# Altium integrated library TI_Logic_Specialty_Logic.IntLib: 2504 symbols (part 55 of 81)
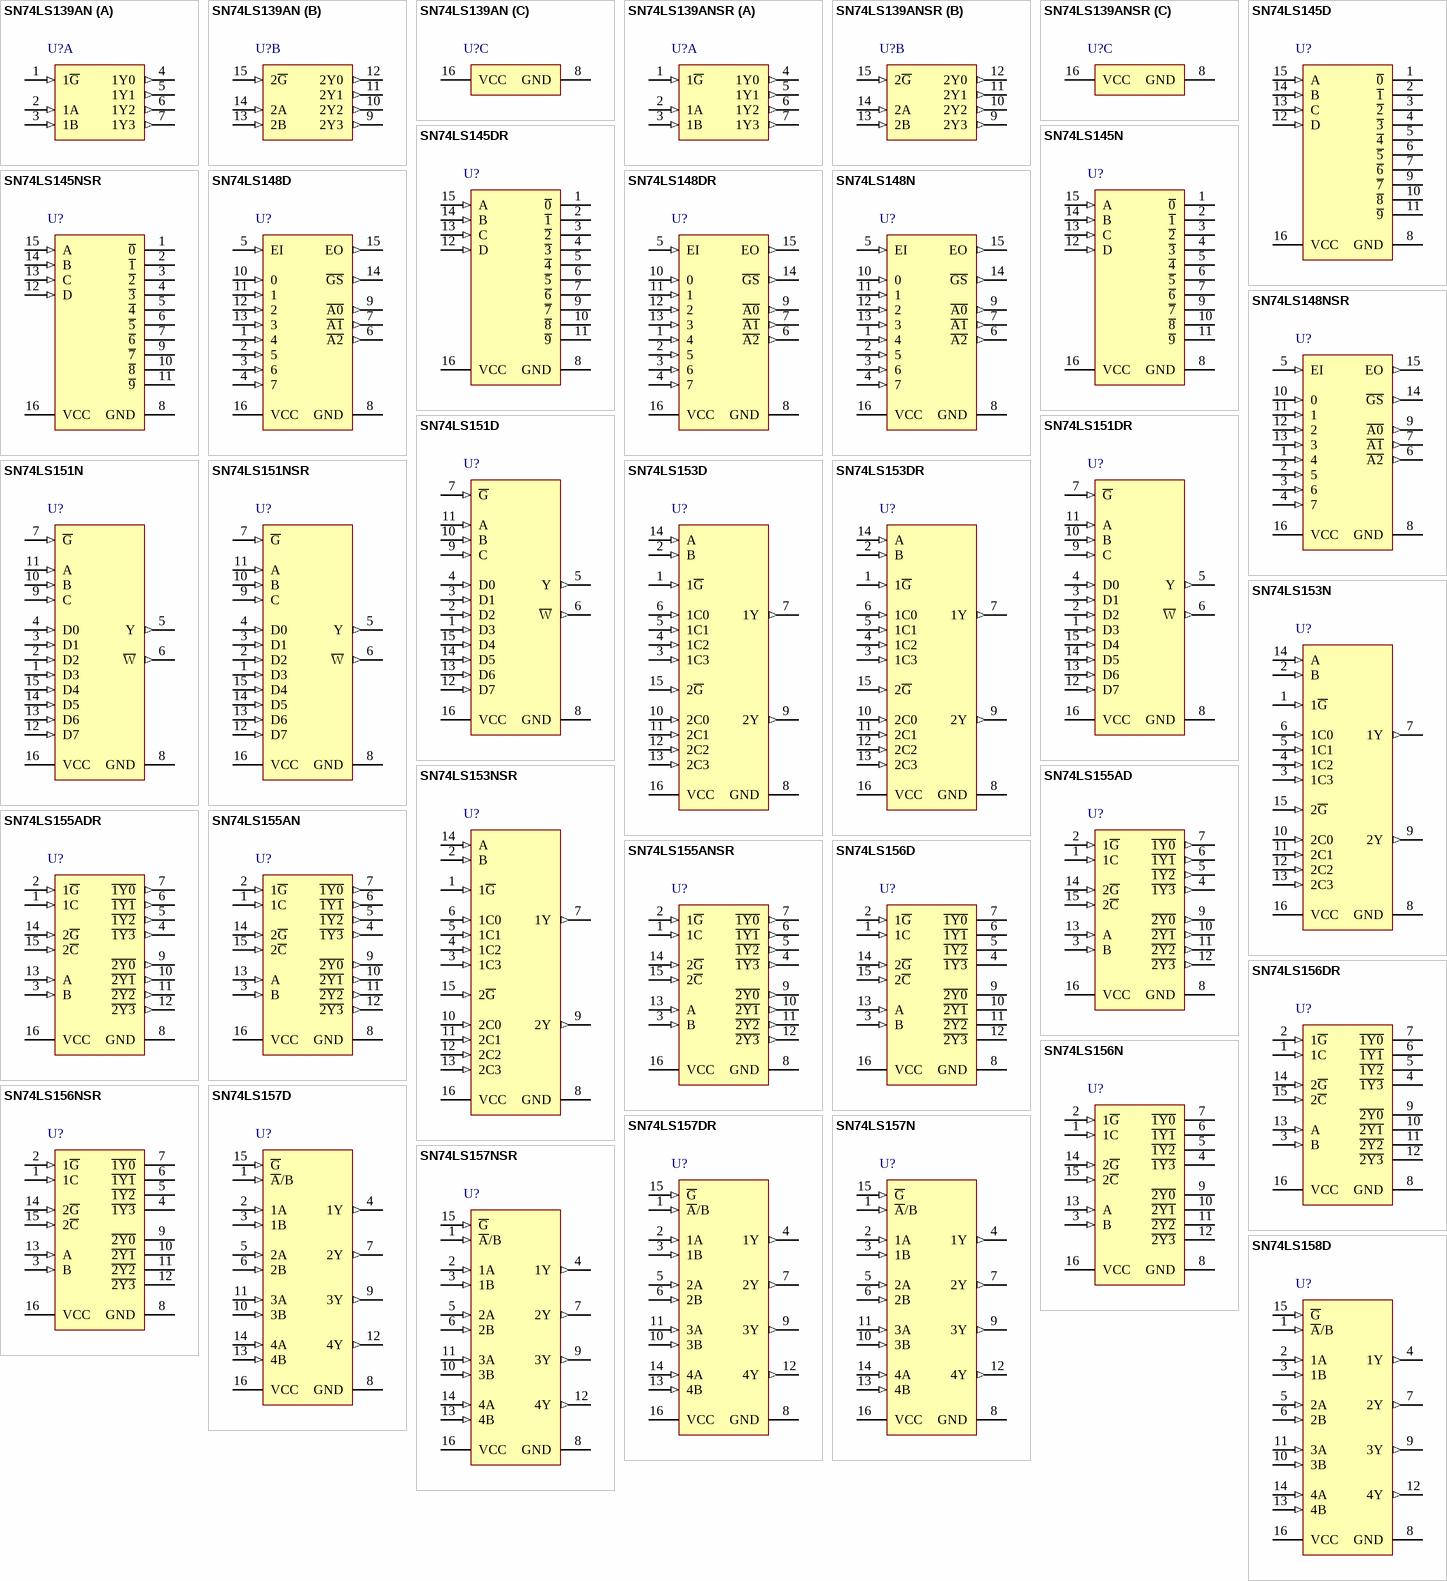
[diagram p158: symbols SN74LS139AN to SN74LS158D]

## SN74LS155ADR
designator U?
Dual 2-Line To 4-Line Decoders/Demultiplexers, D0016A, LARGE T&R; Generic Part Number: SN74LS155A; Manufacturer: Texas Instruments; PartNumber: SN74LS155ADR; VCC(Min)(V): 4.75; VCC(Max)(V): 5.25; Output Type: TTL; Function: Decoder/Demultiplexer; ICC @ Nom Voltage(Max)(mA): 10; Bits(#): 4; F @ Nom Voltage(Max)(Mhz): 35; Configuration: 2：4; Channels(#): 2; Rating: Catalog; Technology Family: LS; Voltage(Nom)(V): 5; Schmitt Trigger: No; Output Drive (IOL/IOH)(Max)(mA): 8/-0.4; tpd @ Nom Voltage(Max)(ns): 27; DatasheetVersion: SDLS057; PackageReference: D0016A; Supplier 1: Mouser; Supplier Part Number 1: 595-SN74LS155ADR; Supplier 2: Digi-Key; Supplier Part Number 2: SN74LS155ADR-ND; Input Type: TTL; Operating Temperature Range(C): 0 to 70; Type: Standard; Code_JEDEC: MS-012 variation AC; ComponentLink1Description: Manufacturer URL; ComponentLink1URL: http://www.ti.com/; ComponentLink2Description: Datasheet; ComponentLink2URL: http://www.ti.com/lit/ds/symlink/sn74ls155a.pdf; ComponentLink3Description: Package Specification; ComponentLink3URL: http://www.ti.com/lit/ml/mpds178g/mpds178g.pdf
footprint D0016A_N (SOIC, 16-Leads, Body 10x4mm, Pitch 1.27mm, IPC Medium Density)
footprint D0016A_M (SOIC, 16-Leads, Body 10x4mm, Pitch 1.27mm, IPC Low Density)
footprint D0016A_L (SOIC, 16-Leads, Body 10x4mm, Pitch 1.27mm, IPC High Density)
pins: 1 1C (in), 2 1~{G} (in), 3 B (in), 4 ~{1Y3} (out), 5 ~{1Y2} (out), 6 ~{1Y1} (out), 7 ~{1Y0} (out), 8 GND (power), 9 ~{2Y0} (out), 10 ~{2Y1} (out), 11 ~{2Y2} (out), 12 ~{2Y3} (out), 13 A (in), 14 2~{G} (in), 15 2~{C} (in), 16 VCC (power)

## SN74LS155AN
designator U?
Dual 2-Line To 4-Line Decoders/Demultiplexers, N0016A, TUBE; Generic Part Number: SN74LS155A; Manufacturer: Texas Instruments; PartNumber: SN74LS155AN; VCC(Min)(V): 4.75; VCC(Max)(V): 5.25; Output Type: TTL; Function: Decoder/Demultiplexer; ICC @ Nom Voltage(Max)(mA): 10; Bits(#): 4; F @ Nom Voltage(Max)(Mhz): 35; Configuration: 2：4; Channels(#): 2; Rating: Catalog; Technology Family: LS; Voltage(Nom)(V): 5; Schmitt Trigger: No; Output Drive (IOL/IOH)(Max)(mA): 8/-0.4; tpd @ Nom Voltage(Max)(ns): 27; DatasheetVersion: SDLS057; PackageReference: N0016A; Supplier 1: Mouser; Supplier Part Number 1: 595-SN74LS155AN; Supplier 2: Digi-Key; Supplier Part Number 2: 296-33961-5-ND; Input Type: TTL; Operating Temperature Range(C): 0 to 70; Type: Standard; Code_JEDEC: MS-001; ComponentLink1Description: Manufacturer URL; ComponentLink1URL: http://www.ti.com/; ComponentLink2Description: Datasheet; ComponentLink2URL: http://www.ti.com/lit/ds/symlink/sn74ls155a.pdf; ComponentLink3Description: Package Specification; ComponentLink3URL: http://www.ti.com/lit/ml/mpdi002c/mpdi002c.pdf
footprint N0016A (DIP, 16-Leads, Body 19.7x6.6mm, Pitch 2.54mm)
pins: 1 1C (in), 2 1~{G} (in), 3 B (in), 4 ~{1Y3} (out), 5 ~{1Y2} (out), 6 ~{1Y1} (out), 7 ~{1Y0} (out), 8 GND (power), 9 ~{2Y0} (out), 10 ~{2Y1} (out), 11 ~{2Y2} (out), 12 ~{2Y3} (out), 13 A (in), 14 2~{G} (in), 15 2~{C} (in), 16 VCC (power)

## SN74LS155ANSR
designator U?
Dual 2-Line To 4-Line Decoders/Demultiplexers, NS0016A, LARGE T&R; Generic Part Number: SN74LS155A; Manufacturer: Texas Instruments; PartNumber: SN74LS155ANSR; VCC(Min)(V): 4.75; VCC(Max)(V): 5.25; Output Type: TTL; Function: Decoder/Demultiplexer; ICC @ Nom Voltage(Max)(mA): 10; Bits(#): 4; F @ Nom Voltage(Max)(Mhz): 35; Configuration: 2：4; Channels(#): 2; Rating: Catalog; Technology Family: LS; Voltage(Nom)(V): 5; Schmitt Trigger: No; Output Drive (IOL/IOH)(Max)(mA): 8/-0.4; tpd @ Nom Voltage(Max)(ns): 27; DatasheetVersion: SDLS057; PackageReference: NS0016A; Supplier 1: Mouser; Supplier Part Number 1: 595-SN74LS155ANSR; Supplier 2: Digi-Key; Supplier Part Number 2: 296-28942-2-ND; Supplier 3: Digi-Key; Supplier Part Number 3: 296-28942-1-ND; Supplier 4: Digi-Key; Supplier Part Number 4: 296-28942-6-ND; Input Type: TTL; Operating Temperature Range(C): 0 to 70; Type: Standard; ComponentLink1Description: Manufacturer URL; ComponentLink1URL: http://www.ti.com/; ComponentLink2Description: Datasheet; ComponentLink2URL: http://www.ti.com/lit/ds/symlink/sn74ls155a.pdf; ComponentLink3Description: Package Specification; ComponentLink3URL: http://www.ti.com/lit/ml/msop002a/msop002a.pdf
footprint NS0016A_N (SOIC,16-Leads,Body 10.5x5.6mm,Pitch 1.27mm,IPC Medium Density)
footprint NS0016A_M (SOIC,16-Leads,Body 10.5x5.6mm,Pitch 1.27mm,IPC Low Density)
footprint NS0016A_L (SOIC,16-Leads,Body 10.5x5.6mm,Pitch 1.27mm,IPC High Density)
pins: 1 1C (in), 2 1~{G} (in), 3 B (in), 4 ~{1Y3} (out), 5 ~{1Y2} (out), 6 ~{1Y1} (out), 7 ~{1Y0} (out), 8 GND (power), 9 ~{2Y0} (out), 10 ~{2Y1} (out), 11 ~{2Y2} (out), 12 ~{2Y3} (out), 13 A (in), 14 2~{G} (in), 15 2~{C} (in), 16 VCC (power)

## SN74LS156D
designator U?
Dual 2-Line to 4-Line Decoders/Demultiplexers with Open-Collector Outputs, D0016A, TUBE; Generic Part Number: SN74LS156; Manufacturer: Texas Instruments; PartNumber: SN74LS156D; VCC(Min)(V): 4.75; VCC(Max)(V): 5.25; Output Type: TTL; Function: Decoder/Demultiplexer; ICC @ Nom Voltage(Max)(mA): 10; Bits(#): 4; F @ Nom Voltage(Max)(Mhz): 35; Configuration: 2：4; Channels(#): 2; Rating: Catalog; Technology Family: LS; Voltage(Nom)(V): 5; Schmitt Trigger: No; Output Drive (IOL/IOH)(Max)(mA): 8/-0.1; tpd @ Nom Voltage(Max)(ns): 27; DatasheetVersion: SDLS057; PackageReference: D0016A; Supplier 1: Mouser; Supplier Part Number 1: 595-SN74LS156D; Supplier 2: Digi-Key; Supplier Part Number 2: 296-33962-5-ND; Input Type: TTL; Operating Temperature Range(C): 0 to 70; Type: Standard; Code_JEDEC: MS-012 variation AC; ComponentLink1Description: Manufacturer URL; ComponentLink1URL: http://www.ti.com/; ComponentLink2Description: Datasheet; ComponentLink2URL: http://www.ti.com/lit/ds/symlink/sn74ls156.pdf; ComponentLink3Description: Package Specification; ComponentLink3URL: http://www.ti.com/lit/ml/mpds178g/mpds178g.pdf
footprint D0016A_N (SOIC, 16-Leads, Body 10x4mm, Pitch 1.27mm, IPC Medium Density)
footprint D0016A_M (SOIC, 16-Leads, Body 10x4mm, Pitch 1.27mm, IPC Low Density)
footprint D0016A_L (SOIC, 16-Leads, Body 10x4mm, Pitch 1.27mm, IPC High Density)
pins: 1 1C (in), 2 1~{G} (in), 3 B (in), 4 ~{1Y3} (oc), 5 ~{1Y2} (oc), 6 ~{1Y1} (oc), 7 ~{1Y0} (oc), 8 GND (power), 9 ~{2Y0} (oc), 10 ~{2Y1} (oc), 11 ~{2Y2} (oc), 12 ~{2Y3} (oc), 13 A (in), 14 2~{G} (in), 15 2~{C} (in), 16 VCC (power)

## SN74LS156DR
designator U?
Dual 2-Line to 4-Line Decoders/Demultiplexers with Open-Collector Outputs, D0016A, LARGE T&R; Generic Part Number: SN74LS156; Manufacturer: Texas Instruments; PartNumber: SN74LS156DR; VCC(Min)(V): 4.75; VCC(Max)(V): 5.25; Output Type: TTL; Function: Decoder/Demultiplexer; ICC @ Nom Voltage(Max)(mA): 10; Bits(#): 4; F @ Nom Voltage(Max)(Mhz): 35; Configuration: 2：4; Channels(#): 2; Rating: Catalog; Technology Family: LS; Voltage(Nom)(V): 5; Schmitt Trigger: No; Output Drive (IOL/IOH)(Max)(mA): 8/-0.1; tpd @ Nom Voltage(Max)(ns): 27; DatasheetVersion: SDLS057; PackageReference: D0016A; Supplier 1: Mouser; Supplier Part Number 1: 595-SN74LS156DR; Supplier 2: Digi-Key; Supplier Part Number 2: SN74LS156DR-ND; Input Type: TTL; Operating Temperature Range(C): 0 to 70; Type: Standard; Code_JEDEC: MS-012 variation AC; ComponentLink1Description: Manufacturer URL; ComponentLink1URL: http://www.ti.com/; ComponentLink2Description: Datasheet; ComponentLink2URL: http://www.ti.com/lit/ds/symlink/sn74ls156.pdf; ComponentLink3Description: Package Specification; ComponentLink3URL: http://www.ti.com/lit/ml/mpds178g/mpds178g.pdf
footprint D0016A_N (SOIC, 16-Leads, Body 10x4mm, Pitch 1.27mm, IPC Medium Density)
footprint D0016A_M (SOIC, 16-Leads, Body 10x4mm, Pitch 1.27mm, IPC Low Density)
footprint D0016A_L (SOIC, 16-Leads, Body 10x4mm, Pitch 1.27mm, IPC High Density)
pins: 1 1C (in), 2 1~{G} (in), 3 B (in), 4 ~{1Y3} (oc), 5 ~{1Y2} (oc), 6 ~{1Y1} (oc), 7 ~{1Y0} (oc), 8 GND (power), 9 ~{2Y0} (oc), 10 ~{2Y1} (oc), 11 ~{2Y2} (oc), 12 ~{2Y3} (oc), 13 A (in), 14 2~{G} (in), 15 2~{C} (in), 16 VCC (power)

## SN74LS156N
designator U?
Dual 2-Line to 4-Line Decoders/Demultiplexers with Open-Collector Outputs, N0016A, TUBE; Generic Part Number: SN74LS156; Manufacturer: Texas Instruments; PartNumber: SN74LS156N; VCC(Min)(V): 4.75; VCC(Max)(V): 5.25; Output Type: TTL; Function: Decoder/Demultiplexer; ICC @ Nom Voltage(Max)(mA): 10; Bits(#): 4; F @ Nom Voltage(Max)(Mhz): 35; Configuration: 2：4; Channels(#): 2; Rating: Catalog; Technology Family: LS; Voltage(Nom)(V): 5; Schmitt Trigger: No; Output Drive (IOL/IOH)(Max)(mA): 8/-0.1; tpd @ Nom Voltage(Max)(ns): 27; DatasheetVersion: SDLS057; PackageReference: N0016A; Supplier 1: Mouser; Supplier Part Number 1: 595-SN74LS156N; Supplier 2: Digi-Key; Supplier Part Number 2: 296-3655-5-ND; Input Type: TTL; Operating Temperature Range(C): 0 to 70; Type: Standard; Code_JEDEC: MS-001; ComponentLink1Description: Manufacturer URL; ComponentLink1URL: http://www.ti.com/; ComponentLink2Description: Datasheet; ComponentLink2URL: http://www.ti.com/lit/ds/symlink/sn74ls156.pdf; ComponentLink3Description: Package Specification; ComponentLink3URL: http://www.ti.com/lit/ml/mpdi002c/mpdi002c.pdf
footprint N0016A (DIP, 16-Leads, Body 19.7x6.6mm, Pitch 2.54mm)
pins: 1 1C (in), 2 1~{G} (in), 3 B (in), 4 ~{1Y3} (oc), 5 ~{1Y2} (oc), 6 ~{1Y1} (oc), 7 ~{1Y0} (oc), 8 GND (power), 9 ~{2Y0} (oc), 10 ~{2Y1} (oc), 11 ~{2Y2} (oc), 12 ~{2Y3} (oc), 13 A (in), 14 2~{G} (in), 15 2~{C} (in), 16 VCC (power)

## SN74LS156NSR
designator U?
Dual 2-Line to 4-Line Decoders/Demultiplexers with Open-Collector Outputs, NS0016A, LARGE T&R; Generic Part Number: SN74LS156; Manufacturer: Texas Instruments; PartNumber: SN74LS156NSR; VCC(Min)(V): 4.75; VCC(Max)(V): 5.25; Output Type: TTL; Function: Decoder/Demultiplexer; ICC @ Nom Voltage(Max)(mA): 10; Bits(#): 4; F @ Nom Voltage(Max)(Mhz): 35; Configuration: 2：4; Channels(#): 2; Rating: Catalog; Technology Family: LS; Voltage(Nom)(V): 5; Schmitt Trigger: No; Output Drive (IOL/IOH)(Max)(mA): 8/-0.1; tpd @ Nom Voltage(Max)(ns): 27; DatasheetVersion: SDLS057; PackageReference: NS0016A; Supplier 1: Mouser; Supplier Part Number 1: 595-SN74LS156NSR; Supplier 2: Digi-Key; Supplier Part Number 2: 296-28805-2-ND; Supplier 3: Digi-Key; Supplier Part Number 3: 296-28805-1-ND; Supplier 4: Digi-Key; Supplier Part Number 4: 296-28805-6-ND; Input Type: TTL; Operating Temperature Range(C): 0 to 70; Type: Standard; ComponentLink1Description: Manufacturer URL; ComponentLink1URL: http://www.ti.com/; ComponentLink2Description: Datasheet; ComponentLink2URL: http://www.ti.com/lit/ds/symlink/sn74ls156.pdf; ComponentLink3Description: Package Specification; ComponentLink3URL: http://www.ti.com/lit/ml/msop002a/msop002a.pdf
footprint NS0016A_N (SOIC,16-Leads,Body 10.5x5.6mm,Pitch 1.27mm,IPC Medium Density)
footprint NS0016A_M (SOIC,16-Leads,Body 10.5x5.6mm,Pitch 1.27mm,IPC Low Density)
footprint NS0016A_L (SOIC,16-Leads,Body 10.5x5.6mm,Pitch 1.27mm,IPC High Density)
pins: 1 1C (in), 2 1~{G} (in), 3 B (in), 4 ~{1Y3} (oc), 5 ~{1Y2} (oc), 6 ~{1Y1} (oc), 7 ~{1Y0} (oc), 8 GND (power), 9 ~{2Y0} (oc), 10 ~{2Y1} (oc), 11 ~{2Y2} (oc), 12 ~{2Y3} (oc), 13 A (in), 14 2~{G} (in), 15 2~{C} (in), 16 VCC (power)

## SN74LS157D
designator U?
Quadruple 2-Line To 1-Line Data Selectors/Multiplexers, D0016A, TUBE; Generic Part Number: SN74LS157; Manufacturer: Texas Instruments; PartNumber: SN74LS157D; VCC(Min)(V): 4.75; VCC(Max)(V): 5.25; Function: Encoder/Multiplexer; ICC @ Nom Voltage(Max)(mA): 16; F @ Nom Voltage(Max)(Mhz): 35; Configuration: 2：1; Channels(#): 4; Rating: Military; Technology Family: LS; Voltage(Nom)(V): 5; Schmitt Trigger: No; Output Drive (IOL/IOH)(Max)(mA): 8/-0.4; tpd @ Nom Voltage(Max)(ns): 14; DatasheetVersion: SDLS058; PackageReference: D0016A; Supplier 1: Mouser; Supplier Part Number 1: 595-SN74LS157D; Supplier 2: Digi-Key; Supplier Part Number 2: 296-3657-5-ND; Operating Temperature Range(C): 0 to 70; Type: Standard; Code_JEDEC: MS-012 variation AC; ComponentLink1Description: Manufacturer URL; ComponentLink1URL: http://www.ti.com/; ComponentLink2Description: Datasheet; ComponentLink2URL: http://www.ti.com/lit/ds/symlink/sn74ls157.pdf; ComponentLink3Description: Package Specification; ComponentLink3URL: http://www.ti.com/lit/ml/mpds178g/mpds178g.pdf
footprint D0016A_N (SOIC, 16-Leads, Body 10x4mm, Pitch 1.27mm, IPC Medium Density)
footprint D0016A_M (SOIC, 16-Leads, Body 10x4mm, Pitch 1.27mm, IPC Low Density)
footprint D0016A_L (SOIC, 16-Leads, Body 10x4mm, Pitch 1.27mm, IPC High Density)
pins: 1 ~{A}/B (in), 2 1A (in), 3 1B (in), 4 1Y (out), 5 2A (in), 6 2B (in), 7 2Y (out), 8 GND (power), 9 3Y (out), 10 3B (in), 11 3A (in), 12 4Y (out), 13 4B (in), 14 4A (in), 15 ~{G} (in), 16 VCC (power)

## SN74LS157DR
designator U?
Quadruple 2-Line To 1-Line Data Selectors/Multiplexers, D0016A, LARGE T&R; Generic Part Number: SN74LS157; Manufacturer: Texas Instruments; PartNumber: SN74LS157DR; VCC(Min)(V): 4.75; VCC(Max)(V): 5.25; Function: Encoder/Multiplexer; ICC @ Nom Voltage(Max)(mA): 16; F @ Nom Voltage(Max)(Mhz): 35; Configuration: 2：1; Channels(#): 4; Rating: Military; Technology Family: LS; Voltage(Nom)(V): 5; Schmitt Trigger: No; Output Drive (IOL/IOH)(Max)(mA): 8/-0.4; tpd @ Nom Voltage(Max)(ns): 14; DatasheetVersion: SDLS058; PackageReference: D0016A; Supplier 1: Mouser; Supplier Part Number 1: 595-SN74LS157DR; Supplier 2: Digi-Key; Supplier Part Number 2: 296-14884-2-ND; Supplier 3: Digi-Key; Supplier Part Number 3: 296-14884-1-ND; Supplier 4: Digi-Key; Supplier Part Number 4: 296-14884-6-ND; Operating Temperature Range(C): 0 to 70; Type: Standard; Code_JEDEC: MS-012 variation AC; ComponentLink1Description: Manufacturer URL; ComponentLink1URL: http://www.ti.com/; ComponentLink2Description: Datasheet; ComponentLink2URL: http://www.ti.com/lit/ds/symlink/sn74ls157.pdf; ComponentLink3Description: Package Specification; ComponentLink3URL: http://www.ti.com/lit/ml/mpds178g/mpds178g.pdf
footprint D0016A_N (SOIC, 16-Leads, Body 10x4mm, Pitch 1.27mm, IPC Medium Density)
footprint D0016A_M (SOIC, 16-Leads, Body 10x4mm, Pitch 1.27mm, IPC Low Density)
footprint D0016A_L (SOIC, 16-Leads, Body 10x4mm, Pitch 1.27mm, IPC High Density)
pins: 1 ~{A}/B (in), 2 1A (in), 3 1B (in), 4 1Y (out), 5 2A (in), 6 2B (in), 7 2Y (out), 8 GND (power), 9 3Y (out), 10 3B (in), 11 3A (in), 12 4Y (out), 13 4B (in), 14 4A (in), 15 ~{G} (in), 16 VCC (power)

## SN74LS157N
designator U?
Quadruple 2-Line To 1-Line Data Selectors/Multiplexers, N0016A, TUBE; Generic Part Number: SN74LS157; Manufacturer: Texas Instruments; PartNumber: SN74LS157N; VCC(Min)(V): 4.75; VCC(Max)(V): 5.25; Function: Encoder/Multiplexer; ICC @ Nom Voltage(Max)(mA): 16; F @ Nom Voltage(Max)(Mhz): 35; Configuration: 2：1; Channels(#): 4; Rating: Military; Technology Family: LS; Voltage(Nom)(V): 5; Schmitt Trigger: No; Output Drive (IOL/IOH)(Max)(mA): 8/-0.4; tpd @ Nom Voltage(Max)(ns): 14; DatasheetVersion: SDLS058; PackageReference: N0016A; Supplier 1: Mouser; Supplier Part Number 1: 595-SN74LS157N; Supplier 2: Digi-Key; Supplier Part Number 2: 296-1645-5-ND; Operating Temperature Range(C): 0 to 70; Type: Standard; Code_JEDEC: MS-001; ComponentLink1Description: Manufacturer URL; ComponentLink1URL: http://www.ti.com/; ComponentLink2Description: Datasheet; ComponentLink2URL: http://www.ti.com/lit/ds/symlink/sn74ls157.pdf; ComponentLink3Description: Package Specification; ComponentLink3URL: http://www.ti.com/lit/ml/mpdi002c/mpdi002c.pdf
footprint N0016A (DIP, 16-Leads, Body 19.7x6.6mm, Pitch 2.54mm)
pins: 1 ~{A}/B (in), 2 1A (in), 3 1B (in), 4 1Y (out), 5 2A (in), 6 2B (in), 7 2Y (out), 8 GND (power), 9 3Y (out), 10 3B (in), 11 3A (in), 12 4Y (out), 13 4B (in), 14 4A (in), 15 ~{G} (in), 16 VCC (power)

## SN74LS157NSR
designator U?
Quadruple 2-Line To 1-Line Data Selectors/Multiplexers, NS0016A, LARGE T&R; Generic Part Number: SN74LS157; Manufacturer: Texas Instruments; PartNumber: SN74LS157NSR; VCC(Min)(V): 4.75; VCC(Max)(V): 5.25; Function: Encoder/Multiplexer; ICC @ Nom Voltage(Max)(mA): 16; F @ Nom Voltage(Max)(Mhz): 35; Configuration: 2：1; Channels(#): 4; Rating: Military; Technology Family: LS; Voltage(Nom)(V): 5; Schmitt Trigger: No; Output Drive (IOL/IOH)(Max)(mA): 8/-0.4; tpd @ Nom Voltage(Max)(ns): 14; DatasheetVersion: SDLS058; PackageReference: NS0016A; Supplier 1: Mouser; Supplier Part Number 1: 595-SN74LS157NSR; Supplier 2: Digi-Key; Supplier Part Number 2: 296-3659-2-ND; Supplier 3: Digi-Key; Supplier Part Number 3: 296-3659-1-ND; Supplier 4: Digi-Key; Supplier Part Number 4: 296-3659-6-ND; Operating Temperature Range(C): 0 to 70; Type: Standard; ComponentLink1Description: Manufacturer URL; ComponentLink1URL: http://www.ti.com/; ComponentLink2Description: Datasheet; ComponentLink2URL: http://www.ti.com/lit/ds/symlink/sn74ls157.pdf; ComponentLink3Description: Package Specification; ComponentLink3URL: http://www.ti.com/lit/ml/msop002a/msop002a.pdf
footprint NS0016A_N (SOIC,16-Leads,Body 10.5x5.6mm,Pitch 1.27mm,IPC Medium Density)
footprint NS0016A_M (SOIC,16-Leads,Body 10.5x5.6mm,Pitch 1.27mm,IPC Low Density)
footprint NS0016A_L (SOIC,16-Leads,Body 10.5x5.6mm,Pitch 1.27mm,IPC High Density)
pins: 1 ~{A}/B (in), 2 1A (in), 3 1B (in), 4 1Y (out), 5 2A (in), 6 2B (in), 7 2Y (out), 8 GND (power), 9 3Y (out), 10 3B (in), 11 3A (in), 12 4Y (out), 13 4B (in), 14 4A (in), 15 ~{G} (in), 16 VCC (power)

## SN74LS158D
designator U?
Quadruple 2-Line To 1-Line Data Selectors/Multiplexers, D0016A, TUBE; Generic Part Number: SN74LS158; Manufacturer: Texas Instruments; PartNumber: SN74LS158D; VCC(Min)(V): 4.75; VCC(Max)(V): 5.25; Output Type: TTL; Function: Encoder/Multiplexer; ICC @ Nom Voltage(Max)(mA): 11; Bits(#): 2; F @ Nom Voltage(Max)(Mhz): 35; Configuration: 2：1; Channels(#): 4; Rating: Catalog; Technology Family: LS; Voltage(Nom)(V): 5; Schmitt Trigger: No; Output Drive (IOL/IOH)(Max)(mA): 8/-0.4; tpd @ Nom Voltage(Max)(ns): 14; DatasheetVersion: SDLS058; PackageReference: D0016A; Supplier 1: Mouser; Supplier Part Number 1: 595-SN74LS158D; Supplier 2: Digi-Key; Supplier Part Number 2: 296-33963-5-ND; Input Type: TTL; Operating Temperature Range(C): 0 to 70; Type: Standard; Code_JEDEC: MS-012 variation AC; ComponentLink1Description: Manufacturer URL; ComponentLink1URL: http://www.ti.com/; ComponentLink2Description: Datasheet; ComponentLink2URL: http://www.ti.com/lit/ds/symlink/sn74ls158.pdf; ComponentLink3Description: Package Specification; ComponentLink3URL: http://www.ti.com/lit/ml/mpds178g/mpds178g.pdf
footprint D0016A_N (SOIC, 16-Leads, Body 10x4mm, Pitch 1.27mm, IPC Medium Density)
footprint D0016A_M (SOIC, 16-Leads, Body 10x4mm, Pitch 1.27mm, IPC Low Density)
footprint D0016A_L (SOIC, 16-Leads, Body 10x4mm, Pitch 1.27mm, IPC High Density)
pins: 1 ~{A}/B (in), 2 1A (in), 3 1B (in), 4 1Y (out), 5 2A (in), 6 2B (in), 7 2Y (out), 8 GND (power), 9 3Y (out), 10 3B (in), 11 3A (in), 12 4Y (out), 13 4B (in), 14 4A (in), 15 ~{G} (in), 16 VCC (power)

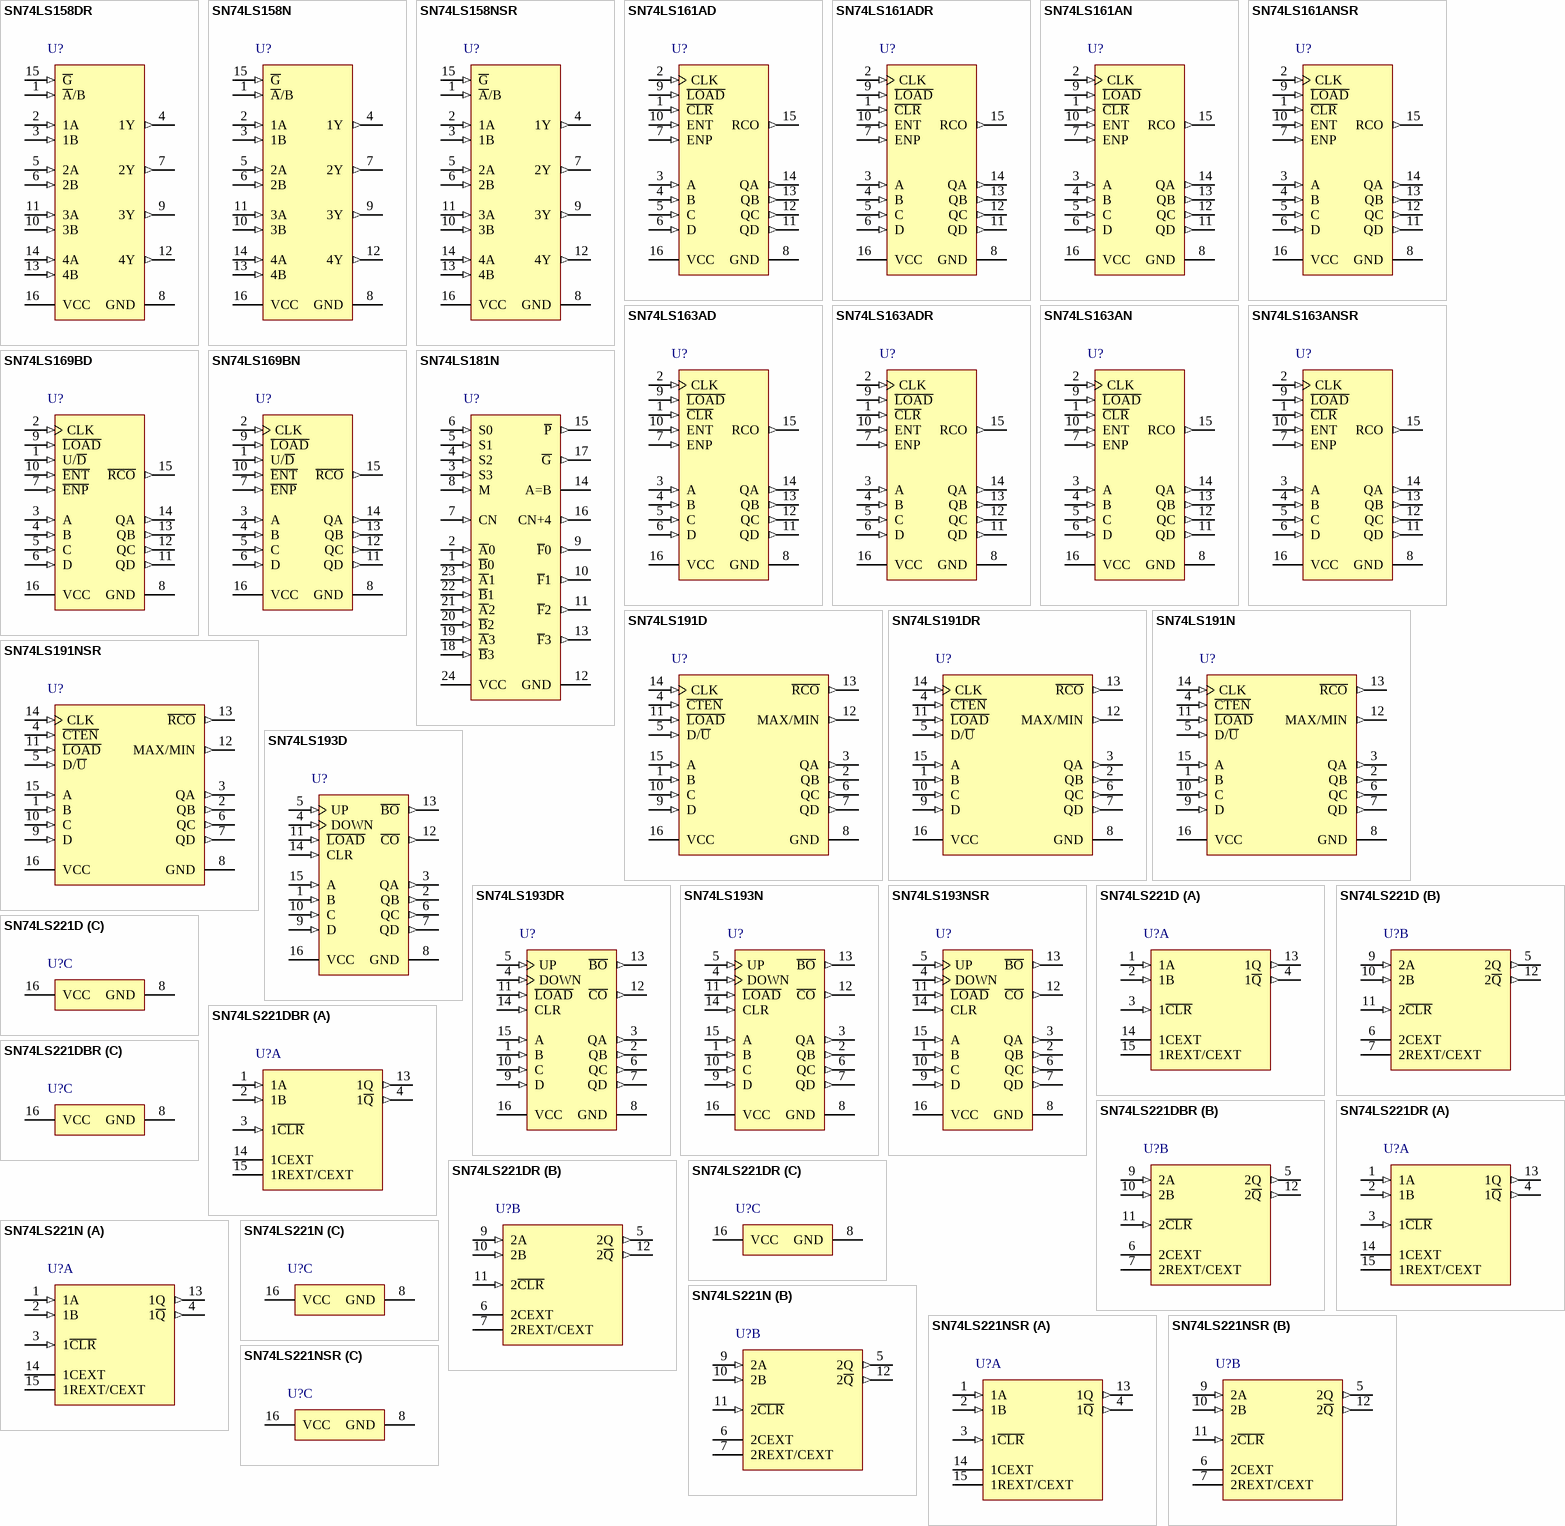
[diagram p69: symbols SN74LS158DR to SN74LS221NSR]

## SN74LS158DR
designator U?
Quadruple 2-Line To 1-Line Data Selectors/Multiplexers, D0016A, LARGE T&R; Generic Part Number: SN74LS158; Manufacturer: Texas Instruments; PartNumber: SN74LS158DR; VCC(Min)(V): 4.75; VCC(Max)(V): 5.25; Output Type: TTL; Function: Encoder/Multiplexer; ICC @ Nom Voltage(Max)(mA): 11; Bits(#): 2; F @ Nom Voltage(Max)(Mhz): 35; Configuration: 2：1; Channels(#): 4; Rating: Catalog; Technology Family: LS; Voltage(Nom)(V): 5; Schmitt Trigger: No; Output Drive (IOL/IOH)(Max)(mA): 8/-0.4; tpd @ Nom Voltage(Max)(ns): 14; DatasheetVersion: SDLS058; PackageReference: D0016A; Supplier 1: Mouser; Supplier Part Number 1: 595-SN74LS158DR; Supplier 2: Digi-Key; Supplier Part Number 2: SN74LS158DR-ND; Input Type: TTL; Operating Temperature Range(C): 0 to 70; Type: Standard; Code_JEDEC: MS-012 variation AC; ComponentLink1Description: Manufacturer URL; ComponentLink1URL: http://www.ti.com/; ComponentLink2Description: Datasheet; ComponentLink2URL: http://www.ti.com/lit/ds/symlink/sn74ls158.pdf; ComponentLink3Description: Package Specification; ComponentLink3URL: http://www.ti.com/lit/ml/mpds178g/mpds178g.pdf
footprint D0016A_N (SOIC, 16-Leads, Body 10x4mm, Pitch 1.27mm, IPC Medium Density)
footprint D0016A_M (SOIC, 16-Leads, Body 10x4mm, Pitch 1.27mm, IPC Low Density)
footprint D0016A_L (SOIC, 16-Leads, Body 10x4mm, Pitch 1.27mm, IPC High Density)
pins: 1 ~{A}/B (in), 2 1A (in), 3 1B (in), 4 1Y (out), 5 2A (in), 6 2B (in), 7 2Y (out), 8 GND (power), 9 3Y (out), 10 3B (in), 11 3A (in), 12 4Y (out), 13 4B (in), 14 4A (in), 15 ~{G} (in), 16 VCC (power)

## SN74LS158N
designator U?
Quadruple 2-Line To 1-Line Data Selectors/Multiplexers, N0016A, TUBE; Generic Part Number: SN74LS158; Manufacturer: Texas Instruments; PartNumber: SN74LS158N; VCC(Min)(V): 4.75; VCC(Max)(V): 5.25; Output Type: TTL; Function: Encoder/Multiplexer; ICC @ Nom Voltage(Max)(mA): 11; Bits(#): 2; F @ Nom Voltage(Max)(Mhz): 35; Configuration: 2：1; Channels(#): 4; Rating: Catalog; Technology Family: LS; Voltage(Nom)(V): 5; Schmitt Trigger: No; Output Drive (IOL/IOH)(Max)(mA): 8/-0.4; tpd @ Nom Voltage(Max)(ns): 14; DatasheetVersion: SDLS058; PackageReference: N0016A; Supplier 1: Mouser; Supplier Part Number 1: 595-SN74LS158N; Supplier 2: Digi-Key; Supplier Part Number 2: 296-33964-5-ND; Input Type: TTL; Operating Temperature Range(C): 0 to 70; Type: Standard; Code_JEDEC: MS-001; ComponentLink1Description: Manufacturer URL; ComponentLink1URL: http://www.ti.com/; ComponentLink2Description: Datasheet; ComponentLink2URL: http://www.ti.com/lit/ds/symlink/sn74ls158.pdf; ComponentLink3Description: Package Specification; ComponentLink3URL: http://www.ti.com/lit/ml/mpdi002c/mpdi002c.pdf
footprint N0016A (DIP, 16-Leads, Body 19.7x6.6mm, Pitch 2.54mm)
pins: 1 ~{A}/B (in), 2 1A (in), 3 1B (in), 4 1Y (out), 5 2A (in), 6 2B (in), 7 2Y (out), 8 GND (power), 9 3Y (out), 10 3B (in), 11 3A (in), 12 4Y (out), 13 4B (in), 14 4A (in), 15 ~{G} (in), 16 VCC (power)

## SN74LS158NSR
designator U?
Quadruple 2-Line To 1-Line Data Selectors/Multiplexers, NS0016A, LARGE T&R; Generic Part Number: SN74LS158; Manufacturer: Texas Instruments; PartNumber: SN74LS158NSR; VCC(Min)(V): 4.75; VCC(Max)(V): 5.25; Output Type: TTL; Function: Encoder/Multiplexer; ICC @ Nom Voltage(Max)(mA): 11; Bits(#): 2; F @ Nom Voltage(Max)(Mhz): 35; Configuration: 2：1; Channels(#): 4; Rating: Catalog; Technology Family: LS; Voltage(Nom)(V): 5; Schmitt Trigger: No; Output Drive (IOL/IOH)(Max)(mA): 8/-0.4; tpd @ Nom Voltage(Max)(ns): 14; DatasheetVersion: SDLS058; PackageReference: NS0016A; Supplier 1: Mouser; Supplier Part Number 1: 595-SN74LS158NSR; Supplier 2: Digi-Key; Supplier Part Number 2: 296-28717-2-ND; Supplier 3: Digi-Key; Supplier Part Number 3: 296-28717-1-ND; Supplier 4: Digi-Key; Supplier Part Number 4: 296-28717-6-ND; Input Type: TTL; Operating Temperature Range(C): 0 to 70; Type: Standard; ComponentLink1Description: Manufacturer URL; ComponentLink1URL: http://www.ti.com/; ComponentLink2Description: Datasheet; ComponentLink2URL: http://www.ti.com/lit/ds/symlink/sn74ls158.pdf; ComponentLink3Description: Package Specification; ComponentLink3URL: http://www.ti.com/lit/ml/msop002a/msop002a.pdf
footprint NS0016A_N (SOIC,16-Leads,Body 10.5x5.6mm,Pitch 1.27mm,IPC Medium Density)
footprint NS0016A_M (SOIC,16-Leads,Body 10.5x5.6mm,Pitch 1.27mm,IPC Low Density)
footprint NS0016A_L (SOIC,16-Leads,Body 10.5x5.6mm,Pitch 1.27mm,IPC High Density)
pins: 1 ~{A}/B (in), 2 1A (in), 3 1B (in), 4 1Y (out), 5 2A (in), 6 2B (in), 7 2Y (out), 8 GND (power), 9 3Y (out), 10 3B (in), 11 3A (in), 12 4Y (out), 13 4B (in), 14 4A (in), 15 ~{G} (in), 16 VCC (power)

## SN74LS161AD
designator U?
Synchronous 4-Bit Binary Counters, D0016A, TUBE; Generic Part Number: SN74LS161A; Manufacturer: Texas Instruments; PartNumber: SN74LS161AD; VCC(Min)(V): 4.75; VCC(Max)(V): 5.25; Output Type: CMOS; Inputs: 1; ICC @ Nom Voltage(Max)(mA): 32; Input Type: TTL; Bits(#): 4; F @ Nom Voltage(Max)(Mhz): 35; Rating: Catalog; Technology Family: LS; Voltage(Nom)(V): 5; Schmitt Trigger: No; Output Drive (IOL/IOH)(Max)(mA): 8/-0.4; DatasheetVersion: SDLS060; PackageReference: D0016A; Supplier 1: Mouser; Supplier Part Number 1: 595-SN74LS161AD; Supplier 2: Digi-Key; Supplier Part Number 2: 296-33965-5-ND; Function: Counter; Operating Temperature Range(C): 0 to 70; Type: Binary; tpd @ Nom Voltage(Max)(ns): 35; Code_JEDEC: MS-012 variation AC; ComponentLink1Description: Manufacturer URL; ComponentLink1URL: http://www.ti.com/; ComponentLink2Description: Datasheet; ComponentLink2URL: http://www.ti.com/lit/ds/symlink/sn74ls161a.pdf; ComponentLink3Description: Package Specification; ComponentLink3URL: http://www.ti.com/lit/ml/mpds178g/mpds178g.pdf
footprint D0016A_N (SOIC, 16-Leads, Body 10x4mm, Pitch 1.27mm, IPC Medium Density)
footprint D0016A_M (SOIC, 16-Leads, Body 10x4mm, Pitch 1.27mm, IPC Low Density)
footprint D0016A_L (SOIC, 16-Leads, Body 10x4mm, Pitch 1.27mm, IPC High Density)
pins: 1 ~{CLR} (in), 2 CLK (in), 3 A (in), 4 B (in), 5 C (in), 6 D (in), 7 ENP (in), 8 GND (power), 9 ~{LOAD} (in), 10 ENT (in), 11 QD (out), 12 QC (out), 13 QB (out), 14 QA (out), 15 RCO (out), 16 VCC (power)

## SN74LS161ADR
designator U?
Synchronous 4-Bit Binary Counters, D0016A, LARGE T&R; Generic Part Number: SN74LS161A; Manufacturer: Texas Instruments; PartNumber: SN74LS161ADR; VCC(Min)(V): 4.75; VCC(Max)(V): 5.25; Output Type: CMOS; Inputs: 1; ICC @ Nom Voltage(Max)(mA): 32; Input Type: TTL; Bits(#): 4; F @ Nom Voltage(Max)(Mhz): 35; Rating: Catalog; Technology Family: LS; Voltage(Nom)(V): 5; Schmitt Trigger: No; Output Drive (IOL/IOH)(Max)(mA): 8/-0.4; DatasheetVersion: SDLS060; PackageReference: D0016A; Supplier 1: Mouser; Supplier Part Number 1: 595-SN74LS161ADR; Supplier 2: Digi-Key; Supplier Part Number 2: 296-37420-2-ND; Supplier 3: Digi-Key; Supplier Part Number 3: 296-37420-1-ND; Supplier 4: Digi-Key; Supplier Part Number 4: 296-37420-6-ND; Function: Counter; Operating Temperature Range(C): 0 to 70; Type: Binary; tpd @ Nom Voltage(Max)(ns): 35; Code_JEDEC: MS-012 variation AC; ComponentLink1Description: Manufacturer URL; ComponentLink1URL: http://www.ti.com/; ComponentLink2Description: Datasheet; ComponentLink2URL: http://www.ti.com/lit/ds/symlink/sn74ls161a.pdf; ComponentLink3Description: Package Specification; ComponentLink3URL: http://www.ti.com/lit/ml/mpds178g/mpds178g.pdf
footprint D0016A_N (SOIC, 16-Leads, Body 10x4mm, Pitch 1.27mm, IPC Medium Density)
footprint D0016A_M (SOIC, 16-Leads, Body 10x4mm, Pitch 1.27mm, IPC Low Density)
footprint D0016A_L (SOIC, 16-Leads, Body 10x4mm, Pitch 1.27mm, IPC High Density)
pins: 1 ~{CLR} (in), 2 CLK (in), 3 A (in), 4 B (in), 5 C (in), 6 D (in), 7 ENP (in), 8 GND (power), 9 ~{LOAD} (in), 10 ENT (in), 11 QD (out), 12 QC (out), 13 QB (out), 14 QA (out), 15 RCO (out), 16 VCC (power)

## SN74LS161AN
designator U?
Synchronous 4-Bit Binary Counters, N0016A, TUBE; Generic Part Number: SN74LS161A; Manufacturer: Texas Instruments; PartNumber: SN74LS161AN; VCC(Min)(V): 4.75; VCC(Max)(V): 5.25; Output Type: CMOS; Inputs: 1; ICC @ Nom Voltage(Max)(mA): 32; Input Type: TTL; Bits(#): 4; F @ Nom Voltage(Max)(Mhz): 35; Rating: Catalog; Technology Family: LS; Voltage(Nom)(V): 5; Schmitt Trigger: No; Output Drive (IOL/IOH)(Max)(mA): 8/-0.4; DatasheetVersion: SDLS060; PackageReference: N0016A; Supplier 1: Mouser; Supplier Part Number 1: 595-SN74LS161AN; Supplier 2: Digi-Key; Supplier Part Number 2: 296-1646-5-ND; Function: Counter; Operating Temperature Range(C): 0 to 70; Type: Binary; tpd @ Nom Voltage(Max)(ns): 35; Code_JEDEC: MS-001; ComponentLink1Description: Manufacturer URL; ComponentLink1URL: http://www.ti.com/; ComponentLink2Description: Datasheet; ComponentLink2URL: http://www.ti.com/lit/ds/symlink/sn74ls161a.pdf; ComponentLink3Description: Package Specification; ComponentLink3URL: http://www.ti.com/lit/ml/mpdi002c/mpdi002c.pdf
footprint N0016A (DIP, 16-Leads, Body 19.7x6.6mm, Pitch 2.54mm)
pins: 1 ~{CLR} (in), 2 CLK (in), 3 A (in), 4 B (in), 5 C (in), 6 D (in), 7 ENP (in), 8 GND (power), 9 ~{LOAD} (in), 10 ENT (in), 11 QD (out), 12 QC (out), 13 QB (out), 14 QA (out), 15 RCO (out), 16 VCC (power)

## SN74LS161ANSR
designator U?
Synchronous 4-Bit Binary Counters, NS0016A, LARGE T&R; Generic Part Number: SN74LS161A; Manufacturer: Texas Instruments; PartNumber: SN74LS161ANSR; VCC(Min)(V): 4.75; VCC(Max)(V): 5.25; Output Type: CMOS; Inputs: 1; ICC @ Nom Voltage(Max)(mA): 32; Input Type: TTL; Bits(#): 4; F @ Nom Voltage(Max)(Mhz): 35; Rating: Catalog; Technology Family: LS; Voltage(Nom)(V): 5; Schmitt Trigger: No; Output Drive (IOL/IOH)(Max)(mA): 8/-0.4; DatasheetVersion: SDLS060; PackageReference: NS0016A; Supplier 1: Mouser; Supplier Part Number 1: 595-SN74LS161ANSR; Supplier 2: Digi-Key; Supplier Part Number 2: 296-3660-2-ND; Supplier 3: Digi-Key; Supplier Part Number 3: 296-3660-1-ND; Supplier 4: Digi-Key; Supplier Part Number 4: 296-3660-6-ND; Function: Counter; Operating Temperature Range(C): 0 to 70; Type: Binary; tpd @ Nom Voltage(Max)(ns): 35; ComponentLink1Description: Manufacturer URL; ComponentLink1URL: http://www.ti.com/; ComponentLink2Description: Datasheet; ComponentLink2URL: http://www.ti.com/lit/ds/symlink/sn74ls161a.pdf; ComponentLink3Description: Package Specification; ComponentLink3URL: http://www.ti.com/lit/ml/msop002a/msop002a.pdf
footprint NS0016A_N (SOIC,16-Leads,Body 10.5x5.6mm,Pitch 1.27mm,IPC Medium Density)
footprint NS0016A_M (SOIC,16-Leads,Body 10.5x5.6mm,Pitch 1.27mm,IPC Low Density)
footprint NS0016A_L (SOIC,16-Leads,Body 10.5x5.6mm,Pitch 1.27mm,IPC High Density)
pins: 1 ~{CLR} (in), 2 CLK (in), 3 A (in), 4 B (in), 5 C (in), 6 D (in), 7 ENP (in), 8 GND (power), 9 ~{LOAD} (in), 10 ENT (in), 11 QD (out), 12 QC (out), 13 QB (out), 14 QA (out), 15 RCO (out), 16 VCC (power)

## SN74LS163AD
designator U?
Synchronous 4-Bit Binary Counters, D0016A, TUBE; Generic Part Number: SN74LS163A; Manufacturer: Texas Instruments; PartNumber: SN74LS163AD; VCC(Min)(V): 4.75; VCC(Max)(V): 5.25; Output Type: CMOS; Inputs: 1; ICC @ Nom Voltage(Max)(mA): 32; Input Type: TTL; Bits(#): 4; F @ Nom Voltage(Max)(Mhz): 35; Rating: Catalog; Technology Family: LS; Voltage(Nom)(V): 5; Schmitt Trigger: No; Output Drive (IOL/IOH)(Max)(mA): 8/-0.4; DatasheetVersion: SDLS060; PackageReference: D0016A; Supplier 1: Mouser; Supplier Part Number 1: 595-SN74LS163AD; Supplier 2: Digi-Key; Supplier Part Number 2: 296-33966-5-ND; Function: Counter; Operating Temperature Range(C): 0 to 70; Type: Binary; tpd @ Nom Voltage(Max)(ns): 35; Code_JEDEC: MS-012 variation AC; ComponentLink1Description: Manufacturer URL; ComponentLink1URL: http://www.ti.com/; ComponentLink2Description: Datasheet; ComponentLink2URL: http://www.ti.com/lit/ds/symlink/sn74ls163a.pdf; ComponentLink3Description: Package Specification; ComponentLink3URL: http://www.ti.com/lit/ml/mpds178g/mpds178g.pdf
footprint D0016A_N (SOIC, 16-Leads, Body 10x4mm, Pitch 1.27mm, IPC Medium Density)
footprint D0016A_M (SOIC, 16-Leads, Body 10x4mm, Pitch 1.27mm, IPC Low Density)
footprint D0016A_L (SOIC, 16-Leads, Body 10x4mm, Pitch 1.27mm, IPC High Density)
pins: 1 ~{CLR} (in), 2 CLK (in), 3 A (in), 4 B (in), 5 C (in), 6 D (in), 7 ENP (in), 8 GND (power), 9 ~{LOAD} (in), 10 ENT (in), 11 QD (out), 12 QC (out), 13 QB (out), 14 QA (out), 15 RCO (out), 16 VCC (power)

## SN74LS163ADR
designator U?
Synchronous 4-Bit Binary Counters, D0016A, LARGE T&R; Generic Part Number: SN74LS163A; Manufacturer: Texas Instruments; PartNumber: SN74LS163ADR; VCC(Min)(V): 4.75; VCC(Max)(V): 5.25; Output Type: CMOS; Inputs: 1; ICC @ Nom Voltage(Max)(mA): 32; Input Type: TTL; Bits(#): 4; F @ Nom Voltage(Max)(Mhz): 35; Rating: Catalog; Technology Family: LS; Voltage(Nom)(V): 5; Schmitt Trigger: No; Output Drive (IOL/IOH)(Max)(mA): 8/-0.4; DatasheetVersion: SDLS060; PackageReference: D0016A; Supplier 1: Mouser; Supplier Part Number 1: 595-SN74LS163ADR; Supplier 2: Digi-Key; Supplier Part Number 2: SN74LS163ADR-ND; Function: Counter; Operating Temperature Range(C): 0 to 70; Type: Binary; tpd @ Nom Voltage(Max)(ns): 35; Code_JEDEC: MS-012 variation AC; ComponentLink1Description: Manufacturer URL; ComponentLink1URL: http://www.ti.com/; ComponentLink2Description: Datasheet; ComponentLink2URL: http://www.ti.com/lit/ds/symlink/sn74ls163a.pdf; ComponentLink3Description: Package Specification; ComponentLink3URL: http://www.ti.com/lit/ml/mpds178g/mpds178g.pdf
footprint D0016A_N (SOIC, 16-Leads, Body 10x4mm, Pitch 1.27mm, IPC Medium Density)
footprint D0016A_M (SOIC, 16-Leads, Body 10x4mm, Pitch 1.27mm, IPC Low Density)
footprint D0016A_L (SOIC, 16-Leads, Body 10x4mm, Pitch 1.27mm, IPC High Density)
pins: 1 ~{CLR} (in), 2 CLK (in), 3 A (in), 4 B (in), 5 C (in), 6 D (in), 7 ENP (in), 8 GND (power), 9 ~{LOAD} (in), 10 ENT (in), 11 QD (out), 12 QC (out), 13 QB (out), 14 QA (out), 15 RCO (out), 16 VCC (power)

## SN74LS163AN
designator U?
Synchronous 4-Bit Binary Counters, N0016A, TUBE; Generic Part Number: SN74LS163A; Manufacturer: Texas Instruments; PartNumber: SN74LS163AN; VCC(Min)(V): 4.75; VCC(Max)(V): 5.25; Output Type: CMOS; Inputs: 1; ICC @ Nom Voltage(Max)(mA): 32; Input Type: TTL; Bits(#): 4; F @ Nom Voltage(Max)(Mhz): 35; Rating: Catalog; Technology Family: LS; Voltage(Nom)(V): 5; Schmitt Trigger: No; Output Drive (IOL/IOH)(Max)(mA): 8/-0.4; DatasheetVersion: SDLS060; PackageReference: N0016A; Supplier 1: Mouser; Supplier Part Number 1: 595-SN74LS163AN; Supplier 2: Digi-Key; Supplier Part Number 2: 296-3661-5-ND; Function: Counter; Operating Temperature Range(C): 0 to 70; Type: Binary; tpd @ Nom Voltage(Max)(ns): 35; Code_JEDEC: MS-001; ComponentLink1Description: Manufacturer URL; ComponentLink1URL: http://www.ti.com/; ComponentLink2Description: Datasheet; ComponentLink2URL: http://www.ti.com/lit/ds/symlink/sn74ls163a.pdf; ComponentLink3Description: Package Specification; ComponentLink3URL: http://www.ti.com/lit/ml/mpdi002c/mpdi002c.pdf
footprint N0016A (DIP, 16-Leads, Body 19.7x6.6mm, Pitch 2.54mm)
pins: 1 ~{CLR} (in), 2 CLK (in), 3 A (in), 4 B (in), 5 C (in), 6 D (in), 7 ENP (in), 8 GND (power), 9 ~{LOAD} (in), 10 ENT (in), 11 QD (out), 12 QC (out), 13 QB (out), 14 QA (out), 15 RCO (out), 16 VCC (power)

## SN74LS163ANSR
designator U?
Synchronous 4-Bit Binary Counters, NS0016A, LARGE T&R; Generic Part Number: SN74LS163A; Manufacturer: Texas Instruments; PartNumber: SN74LS163ANSR; VCC(Min)(V): 4.75; VCC(Max)(V): 5.25; Output Type: CMOS; Inputs: 1; ICC @ Nom Voltage(Max)(mA): 32; Input Type: TTL; Bits(#): 4; F @ Nom Voltage(Max)(Mhz): 35; Rating: Catalog; Technology Family: LS; Voltage(Nom)(V): 5; Schmitt Trigger: No; Output Drive (IOL/IOH)(Max)(mA): 8/-0.4; DatasheetVersion: SDLS060; PackageReference: NS0016A; Supplier 1: Mouser; Supplier Part Number 1: 595-SN74LS163ANSR; Supplier 2: Digi-Key; Supplier Part Number 2: 296-28718-2-ND; Supplier 3: Digi-Key; Supplier Part Number 3: 296-28718-1-ND; Supplier 4: Digi-Key; Supplier Part Number 4: 296-28718-6-ND; Function: Counter; Operating Temperature Range(C): 0 to 70; Type: Binary; tpd @ Nom Voltage(Max)(ns): 35; ComponentLink1Description: Manufacturer URL; ComponentLink1URL: http://www.ti.com/; ComponentLink2Description: Datasheet; ComponentLink2URL: http://www.ti.com/lit/ds/symlink/sn74ls163a.pdf; ComponentLink3Description: Package Specification; ComponentLink3URL: http://www.ti.com/lit/ml/msop002a/msop002a.pdf
footprint NS0016A_N (SOIC,16-Leads,Body 10.5x5.6mm,Pitch 1.27mm,IPC Medium Density)
footprint NS0016A_M (SOIC,16-Leads,Body 10.5x5.6mm,Pitch 1.27mm,IPC Low Density)
footprint NS0016A_L (SOIC,16-Leads,Body 10.5x5.6mm,Pitch 1.27mm,IPC High Density)
pins: 1 ~{CLR} (in), 2 CLK (in), 3 A (in), 4 B (in), 5 C (in), 6 D (in), 7 ENP (in), 8 GND (power), 9 ~{LOAD} (in), 10 ENT (in), 11 QD (out), 12 QC (out), 13 QB (out), 14 QA (out), 15 RCO (out), 16 VCC (power)

## SN74LS169BD
designator U?
Synchronous 4-Bit Up/Down Binary Counters, D0016A, TUBE; Generic Part Number: SN74LS169B; Manufacturer: Texas Instruments; PartNumber: SN74LS169BD; VCC(Min)(V): 4.75; VCC(Max)(V): 5.25; Output Type: CMOS; Inputs: 1; ICC @ Nom Voltage(Max)(mA): 45; Input Type: TTL; Bits(#): 4; F @ Nom Voltage(Max)(Mhz): 35; Rating: Catalog; Technology Family: LS; Voltage(Nom)(V): 5; Schmitt Trigger: No; Output Drive (IOL/IOH)(Max)(mA): 24/-12; tpd @ Nom Voltage(Max)(ns): 40; DatasheetVersion: SDLS134; PackageReference: D0016A; Supplier 1: Mouser; Supplier Part Number 1: 595-SN74LS169BD; Supplier 2: Digi-Key; Supplier Part Number 2: SN74LS169BD-ND; Function: Counter; Operating Temperature Range(C): 0 to 70; Type: Binary; Code_JEDEC: MS-012 variation AC; ComponentLink1Description: Manufacturer URL; ComponentLink1URL: http://www.ti.com/; ComponentLink2Description: Datasheet; ComponentLink2URL: http://www.ti.com/lit/ds/symlink/sn74ls169b.pdf; ComponentLink3Description: Package Specification; ComponentLink3URL: http://www.ti.com/lit/ml/mpds178g/mpds178g.pdf
footprint D0016A_N (SOIC, 16-Leads, Body 10x4mm, Pitch 1.27mm, IPC Medium Density)
footprint D0016A_M (SOIC, 16-Leads, Body 10x4mm, Pitch 1.27mm, IPC Low Density)
footprint D0016A_L (SOIC, 16-Leads, Body 10x4mm, Pitch 1.27mm, IPC High Density)
pins: 1 U/~{D} (in), 2 CLK (in), 3 A (in), 4 B (in), 5 C (in), 6 D (in), 7 ~{ENP} (in), 8 GND (power), 9 ~{LOAD} (in), 10 ~{ENT} (in), 11 QD (out), 12 QC (out), 13 QB (out), 14 QA (out), 15 ~{RCO} (out), 16 VCC (power)

## SN74LS169BN
designator U?
Synchronous 4-Bit Up/Down Binary Counters, N0016A, TUBE; Generic Part Number: SN74LS169B; Manufacturer: Texas Instruments; PartNumber: SN74LS169BN; VCC(Min)(V): 4.75; VCC(Max)(V): 5.25; Output Type: CMOS; Inputs: 1; ICC @ Nom Voltage(Max)(mA): 45; Input Type: TTL; Bits(#): 4; F @ Nom Voltage(Max)(Mhz): 35; Rating: Catalog; Technology Family: LS; Voltage(Nom)(V): 5; Schmitt Trigger: No; Output Drive (IOL/IOH)(Max)(mA): 24/-12; tpd @ Nom Voltage(Max)(ns): 40; DatasheetVersion: SDLS134; PackageReference: N0016A; Supplier 1: Mouser; Supplier Part Number 1: 595-SN74LS169BN; Supplier 2: Digi-Key; Supplier Part Number 2: 296-3663-5-ND; Function: Counter; Operating Temperature Range(C): 0 to 70; Type: Binary; Code_JEDEC: MS-001; ComponentLink1Description: Manufacturer URL; ComponentLink1URL: http://www.ti.com/; ComponentLink2Description: Datasheet; ComponentLink2URL: http://www.ti.com/lit/ds/symlink/sn74ls169b.pdf; ComponentLink3Description: Package Specification; ComponentLink3URL: http://www.ti.com/lit/ml/mpdi002c/mpdi002c.pdf
footprint N0016A (DIP, 16-Leads, Body 19.7x6.6mm, Pitch 2.54mm)
pins: 1 U/~{D} (in), 2 CLK (in), 3 A (in), 4 B (in), 5 C (in), 6 D (in), 7 ~{ENP} (in), 8 GND (power), 9 ~{LOAD} (in), 10 ~{ENT} (in), 11 QD (out), 12 QC (out), 13 QB (out), 14 QA (out), 15 ~{RCO} (out), 16 VCC (power)

## SN74LS181N
designator U?
Arithmetic Logic Units/Function Generators, N0024A, TUBE; Generic Part Number: SN74LS181; Manufacturer: Texas Instruments; PartNumber: SN74LS181N; DatasheetVersion: SDLS136; PackageReference: N0024A; Supplier 1: Mouser; Supplier Part Number 1: 595-SN74LS181N; Supplier 2: Digi-Key; Supplier Part Number 2: 296-33973-5-ND; Code_JEDEC: MS-011; ComponentLink1Description: Manufacturer URL; ComponentLink1URL: http://www.ti.com/; ComponentLink2Description: Datasheet; ComponentLink2URL: http://www.ti.com/lit/ds/symlink/sn74ls181.pdf; ComponentLink3Description: Package Specification; ComponentLink3URL: http://www.ti.com/lit/ml/mpdi008/mpdi008.pdf
footprint N0024A (DIP, 24-Leads, Body 32.25x14.2mm, Pitch 2.54mm)
pins: 1 ~{B}0 (in), 2 ~{A}0 (in), 3 S3 (in), 4 S2 (in), 5 S1 (in), 6 S0 (in), 7 CN (in), 8 M (in), 9 ~{F}0 (out), 10 ~{F}1 (out), 11 ~{F}2 (out), 12 GND (power), 13 ~{F}3 (out), 14 A=B (oc), 15 ~{P} (out), 16 CN+4 (out), 17 ~{G} (out), 18 ~{B}3 (in), 19 ~{A}3 (in), 20 ~{B}2 (in), 21 ~{A}2 (in), 22 ~{B}1 (in), 23 ~{A}1 (in), 24 VCC (power)

## SN74LS191D
designator U?
Synchronous 4-Bit Up/Down Counters With Up/Down Mode Control, D0016A, TUBE; Generic Part Number: SN74LS191; Manufacturer: Texas Instruments; PartNumber: SN74LS191D; VCC(Min)(V): 4.75; VCC(Max)(V): 5.25; Output Type: CMOS; Inputs: 1; ICC @ Nom Voltage(Max)(mA): 105; Input Type: TTL; Bits(#): 4; F @ Nom Voltage(Max)(Mhz): 35; Rating: Catalog; Technology Family: LS; Voltage(Nom)(V): 5; Schmitt Trigger: No; Output Drive (IOL/IOH)(Max)(mA): 16/-0.8; tpd @ Nom Voltage(Max)(ns): 52; DatasheetVersion: SDLS072; PackageReference: D0016A; Supplier 1: Mouser; Supplier Part Number 1: 595-SN74LS191D; Supplier 2: Digi-Key; Supplier Part Number 2: 296-33974-5-ND; Function: Counter; Operating Temperature Range(C): 0 to 70; Type: Binary; Code_JEDEC: MS-012 variation AC; ComponentLink1Description: Manufacturer URL; ComponentLink1URL: http://www.ti.com/; ComponentLink2Description: Datasheet; ComponentLink2URL: http://www.ti.com/lit/ds/symlink/sn74ls191.pdf; ComponentLink3Description: Package Specification; ComponentLink3URL: http://www.ti.com/lit/ml/mpds178g/mpds178g.pdf
footprint D0016A_N (SOIC, 16-Leads, Body 10x4mm, Pitch 1.27mm, IPC Medium Density)
footprint D0016A_M (SOIC, 16-Leads, Body 10x4mm, Pitch 1.27mm, IPC Low Density)
footprint D0016A_L (SOIC, 16-Leads, Body 10x4mm, Pitch 1.27mm, IPC High Density)
pins: 1 B (in), 2 QB (out), 3 QA (out), 4 ~{CTEN} (in), 5 D/~{U} (in), 6 QC (out), 7 QD (out), 8 GND (power), 9 D (in), 10 C (in), 11 ~{LOAD} (in), 12 MAX/MIN (out), 13 ~{RCO} (out), 14 CLK (in), 15 A (in), 16 VCC (power)

## SN74LS191DR
designator U?
Synchronous 4-Bit Up/Down Counters With Up/Down Mode Control, D0016A, LARGE T&R; Generic Part Number: SN74LS191; Manufacturer: Texas Instruments; PartNumber: SN74LS191DR; VCC(Min)(V): 4.75; VCC(Max)(V): 5.25; Output Type: CMOS; Inputs: 1; ICC @ Nom Voltage(Max)(mA): 105; Input Type: TTL; Bits(#): 4; F @ Nom Voltage(Max)(Mhz): 35; Rating: Catalog; Technology Family: LS; Voltage(Nom)(V): 5; Schmitt Trigger: No; Output Drive (IOL/IOH)(Max)(mA): 16/-0.8; tpd @ Nom Voltage(Max)(ns): 52; DatasheetVersion: SDLS072; PackageReference: D0016A; Supplier 1: Mouser; Supplier Part Number 1: 595-SN74LS191DR; Supplier 2: Digi-Key; Supplier Part Number 2: SN74LS191DR-ND; Function: Counter; Operating Temperature Range(C): 0 to 70; Type: Binary; Code_JEDEC: MS-012 variation AC; ComponentLink1Description: Manufacturer URL; ComponentLink1URL: http://www.ti.com/; ComponentLink2Description: Datasheet; ComponentLink2URL: http://www.ti.com/lit/ds/symlink/sn74ls191.pdf; ComponentLink3Description: Package Specification; ComponentLink3URL: http://www.ti.com/lit/ml/mpds178g/mpds178g.pdf
footprint D0016A_N (SOIC, 16-Leads, Body 10x4mm, Pitch 1.27mm, IPC Medium Density)
footprint D0016A_M (SOIC, 16-Leads, Body 10x4mm, Pitch 1.27mm, IPC Low Density)
footprint D0016A_L (SOIC, 16-Leads, Body 10x4mm, Pitch 1.27mm, IPC High Density)
pins: 1 B (in), 2 QB (out), 3 QA (out), 4 ~{CTEN} (in), 5 D/~{U} (in), 6 QC (out), 7 QD (out), 8 GND (power), 9 D (in), 10 C (in), 11 ~{LOAD} (in), 12 MAX/MIN (out), 13 ~{RCO} (out), 14 CLK (in), 15 A (in), 16 VCC (power)

## SN74LS191N
designator U?
Synchronous 4-Bit Up/Down Counters With Up/Down Mode Control, N0016A, TUBE; Generic Part Number: SN74LS191; Manufacturer: Texas Instruments; PartNumber: SN74LS191N; VCC(Min)(V): 4.75; VCC(Max)(V): 5.25; Output Type: CMOS; Inputs: 1; ICC @ Nom Voltage(Max)(mA): 105; Input Type: TTL; Bits(#): 4; F @ Nom Voltage(Max)(Mhz): 35; Rating: Catalog; Technology Family: LS; Voltage(Nom)(V): 5; Schmitt Trigger: No; Output Drive (IOL/IOH)(Max)(mA): 16/-0.8; tpd @ Nom Voltage(Max)(ns): 52; DatasheetVersion: SDLS072; PackageReference: N0016A; Supplier 1: Mouser; Supplier Part Number 1: 595-SN74LS191N; Supplier 2: Digi-Key; Supplier Part Number 2: 296-14886-5-ND; Function: Counter; Operating Temperature Range(C): 0 to 70; Type: Binary; Code_JEDEC: MS-001; ComponentLink1Description: Manufacturer URL; ComponentLink1URL: http://www.ti.com/; ComponentLink2Description: Datasheet; ComponentLink2URL: http://www.ti.com/lit/ds/symlink/sn74ls191.pdf; ComponentLink3Description: Package Specification; ComponentLink3URL: http://www.ti.com/lit/ml/mpdi002c/mpdi002c.pdf
footprint N0016A (DIP, 16-Leads, Body 19.7x6.6mm, Pitch 2.54mm)
pins: 1 B (in), 2 QB (out), 3 QA (out), 4 ~{CTEN} (in), 5 D/~{U} (in), 6 QC (out), 7 QD (out), 8 GND (power), 9 D (in), 10 C (in), 11 ~{LOAD} (in), 12 MAX/MIN (out), 13 ~{RCO} (out), 14 CLK (in), 15 A (in), 16 VCC (power)

## SN74LS191NSR
designator U?
Synchronous 4-Bit Up/Down Counters With Up/Down Mode Control, NS0016A, LARGE T&R; Generic Part Number: SN74LS191; Manufacturer: Texas Instruments; PartNumber: SN74LS191NSR; VCC(Min)(V): 4.75; VCC(Max)(V): 5.25; Output Type: CMOS; Inputs: 1; ICC @ Nom Voltage(Max)(mA): 105; Input Type: TTL; Bits(#): 4; F @ Nom Voltage(Max)(Mhz): 35; Rating: Catalog; Technology Family: LS; Voltage(Nom)(V): 5; Schmitt Trigger: No; Output Drive (IOL/IOH)(Max)(mA): 16/-0.8; tpd @ Nom Voltage(Max)(ns): 52; DatasheetVersion: SDLS072; PackageReference: NS0016A; Supplier 1: Mouser; Supplier Part Number 1: 595-SN74LS191NSR; Supplier 2: Digi-Key; Supplier Part Number 2: 296-29978-2-ND; Supplier 3: Digi-Key; Supplier Part Number 3: 296-29978-1-ND; Supplier 4: Digi-Key; Supplier Part Number 4: 296-29978-6-ND; Function: Counter; Operating Temperature Range(C): 0 to 70; Type: Binary; ComponentLink1Description: Manufacturer URL; ComponentLink1URL: http://www.ti.com/; ComponentLink2Description: Datasheet; ComponentLink2URL: http://www.ti.com/lit/ds/symlink/sn74ls191.pdf; ComponentLink3Description: Package Specification; ComponentLink3URL: http://www.ti.com/lit/ml/msop002a/msop002a.pdf
footprint NS0016A_N (SOIC,16-Leads,Body 10.5x5.6mm,Pitch 1.27mm,IPC Medium Density)
footprint NS0016A_M (SOIC,16-Leads,Body 10.5x5.6mm,Pitch 1.27mm,IPC Low Density)
footprint NS0016A_L (SOIC,16-Leads,Body 10.5x5.6mm,Pitch 1.27mm,IPC High Density)
pins: 1 B (in), 2 QB (out), 3 QA (out), 4 ~{CTEN} (in), 5 D/~{U} (in), 6 QC (out), 7 QD (out), 8 GND (power), 9 D (in), 10 C (in), 11 ~{LOAD} (in), 12 MAX/MIN (out), 13 ~{RCO} (out), 14 CLK (in), 15 A (in), 16 VCC (power)

## SN74LS193D
designator U?
Synchronous 4-Bit Up/Down Binary Counters With Dual Clock and Clear, D0016A, TUBE; Generic Part Number: SN74LS193; Manufacturer: Texas Instruments; PartNumber: SN74LS193D; VCC(Min)(V): 4.75; VCC(Max)(V): 5.25; Output Type: CMOS; Inputs: 4; ICC @ Nom Voltage(Max)(mA): 34; Input Type: TTL; F @ Nom Voltage(Max)(Mhz): 35; Rating: Catalog; Technology Family: LS; Voltage(Nom)(V): 5; Schmitt Trigger: No; Output Drive (IOL/IOH)(Max)(mA): 8/-0.4; tpd @ Nom Voltage(Max)(ns): 47; DatasheetVersion: SDLS074; PackageReference: D0016A; Supplier 1: Mouser; Supplier Part Number 1: 595-SN74LS193D; Supplier 2: Digi-Key; Supplier Part Number 2: 296-3665-5-ND; Function: Counter; Bits(#): 4; Operating Temperature Range(C): 0 to 70; Type: Binary; Code_JEDEC: MS-012 variation AC; ComponentLink1Description: Manufacturer URL; ComponentLink1URL: http://www.ti.com/; ComponentLink2Description: Datasheet; ComponentLink2URL: http://www.ti.com/lit/ds/symlink/sn74ls193.pdf; ComponentLink3Description: Package Specification; ComponentLink3URL: http://www.ti.com/lit/ml/mpds178g/mpds178g.pdf
footprint D0016A_N (SOIC, 16-Leads, Body 10x4mm, Pitch 1.27mm, IPC Medium Density)
footprint D0016A_M (SOIC, 16-Leads, Body 10x4mm, Pitch 1.27mm, IPC Low Density)
footprint D0016A_L (SOIC, 16-Leads, Body 10x4mm, Pitch 1.27mm, IPC High Density)
pins: 1 B (in), 2 QB (out), 3 QA (out), 4 DOWN (in), 5 UP (in), 6 QC (out), 7 QD (out), 8 GND (power), 9 D (in), 10 C (in), 11 ~{LOAD} (in), 12 ~{CO} (out), 13 ~{BO} (out), 14 CLR (in), 15 A (in), 16 VCC (power)

## SN74LS193DR
designator U?
Synchronous 4-Bit Up/Down Binary Counters With Dual Clock and Clear, D0016A, LARGE T&R; Generic Part Number: SN74LS193; Manufacturer: Texas Instruments; PartNumber: SN74LS193DR; VCC(Min)(V): 4.75; VCC(Max)(V): 5.25; Output Type: CMOS; Inputs: 4; ICC @ Nom Voltage(Max)(mA): 34; Input Type: TTL; F @ Nom Voltage(Max)(Mhz): 35; Rating: Catalog; Technology Family: LS; Voltage(Nom)(V): 5; Schmitt Trigger: No; Output Drive (IOL/IOH)(Max)(mA): 8/-0.4; tpd @ Nom Voltage(Max)(ns): 47; DatasheetVersion: SDLS074; PackageReference: D0016A; Supplier 1: Mouser; Supplier Part Number 1: 595-SN74LS193DR; Supplier 2: Digi-Key; Supplier Part Number 2: 296-29447-2-ND; Supplier 3: Digi-Key; Supplier Part Number 3: 296-29447-1-ND; Supplier 4: Digi-Key; Supplier Part Number 4: 296-29447-6-ND; Function: Counter; Bits(#): 4; Operating Temperature Range(C): 0 to 70; Type: Binary; Code_JEDEC: MS-012 variation AC; ComponentLink1Description: Manufacturer URL; ComponentLink1URL: http://www.ti.com/; ComponentLink2Description: Datasheet; ComponentLink2URL: http://www.ti.com/lit/ds/symlink/sn74ls193.pdf; ComponentLink3Description: Package Specification; ComponentLink3URL: http://www.ti.com/lit/ml/mpds178g/mpds178g.pdf
footprint D0016A_N (SOIC, 16-Leads, Body 10x4mm, Pitch 1.27mm, IPC Medium Density)
footprint D0016A_M (SOIC, 16-Leads, Body 10x4mm, Pitch 1.27mm, IPC Low Density)
footprint D0016A_L (SOIC, 16-Leads, Body 10x4mm, Pitch 1.27mm, IPC High Density)
pins: 1 B (in), 2 QB (out), 3 QA (out), 4 DOWN (in), 5 UP (in), 6 QC (out), 7 QD (out), 8 GND (power), 9 D (in), 10 C (in), 11 ~{LOAD} (in), 12 ~{CO} (out), 13 ~{BO} (out), 14 CLR (in), 15 A (in), 16 VCC (power)